# Altium footprint library DfPlayer_board.PcbLib: 2 footprints
Each footprint in its own frame and in the unit in brackets; x right, y up, seen from the top. Pads: shape width x height; smd on the part's side, far side on the other; paste and mask are expansions set on the pad; w line width, h text height; cw(c..) or ccw(c..) is an arc to the next point about the centre after c.
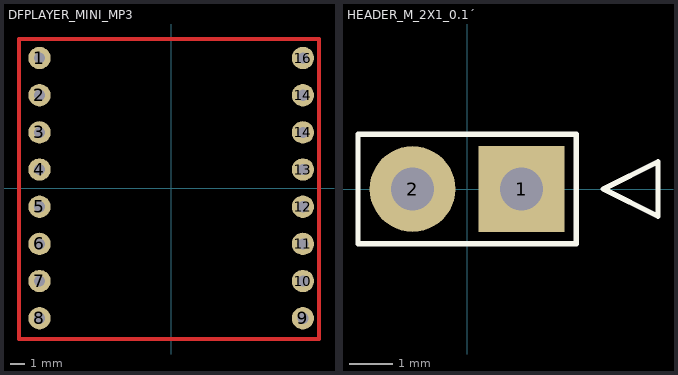
[diagram p0: the footprints below, top view; thin cyan lines are the x and y axes]

## DFPLAYER_MINI_MP3 [mil] "HEADER for DfPlayer mini MP3"
pads (16):
  round 60 hole 30: 1(-354.33,350) 2(-354.33,250) 3(-354.33,150) 4(-354.33,50) 5(-354.33,-50) 6(-354.33,-150) 7(-354.33,-250) 8(-354.33,-350) 9(354.33,-350) 10(354.33,-250) 11(354.33,-150) 12(354.33,-50) 13(354.33,50) 14(354.33,150) 14(354.33,250) 16(354.33,350)
Top Layer:
  lines w10: -409.45,-405.91 397.64,-405.91 397.64,401.18 -409.45,401.18 -409.45,-405.91

## HEADER_M_2X1_0.1´ [mm] "Tira de Pines 2X1 0.1'"
pads (2):
  rect 2x2 hole 1 mask+0.102: 1(1.27,0)
  round 2 hole 1 mask+0.102: 2(-1.27,0)
Top Overlay:
  lines w0.127: -2.54,-1.27 -2.54,0 -2.54,1.27 2.54,1.27 2.54,-1.27 -2.54,-1.27 ; 3.175,0 4.445,-0.635 4.445,0.635 3.175,0